# Altium schematic symbol library Nimb_Ring_2_0.SchLib: 30 symbols
Pins are listed as number, name and electrical type; pins without a type are passive.

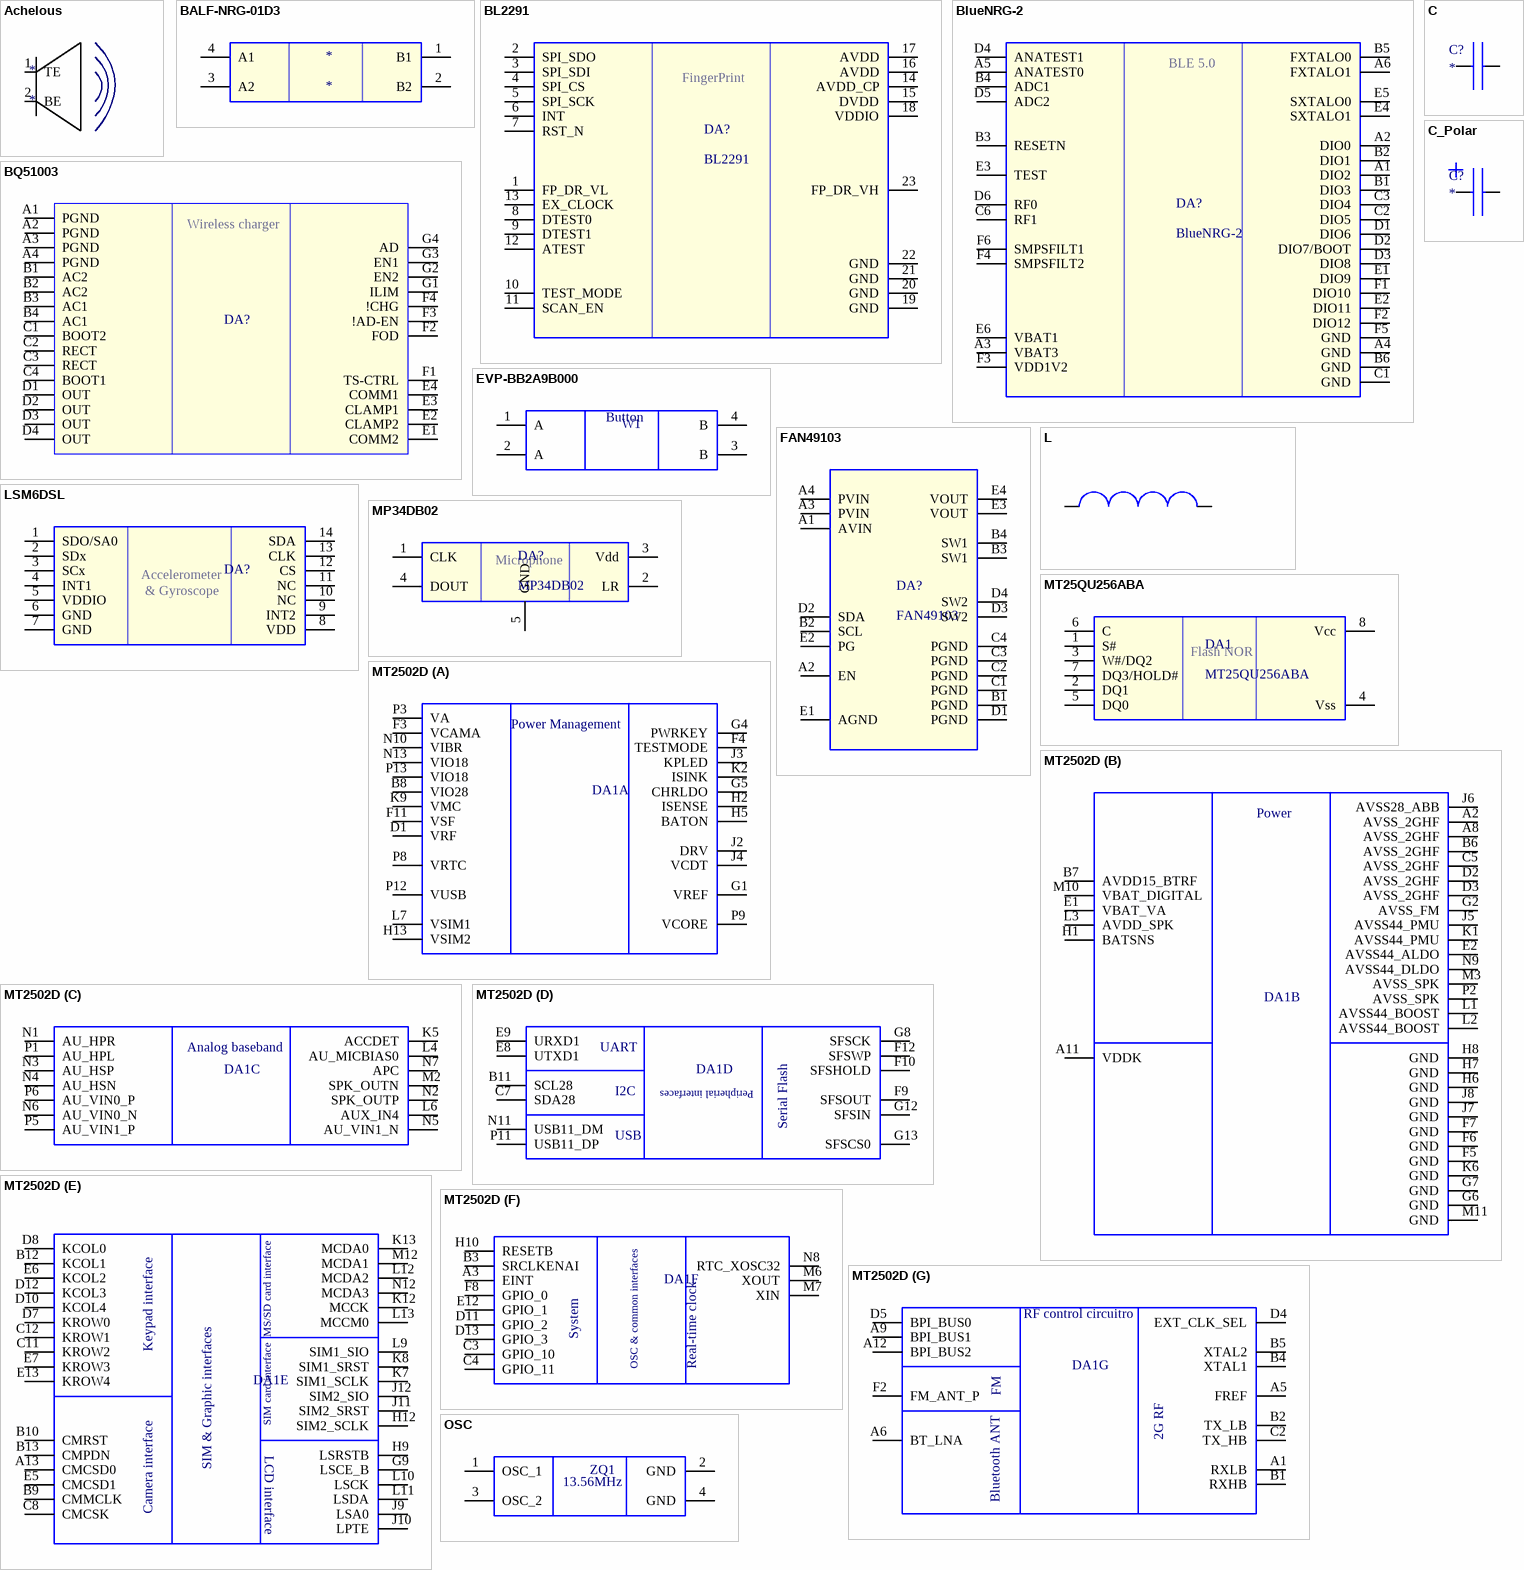
[diagram p0: symbols Achelous to OSC]

## Achelous
designator *
footprint SMD_SPEAKER_2pins (Achelous speaker)
pins: 1 TE, 2 BE

## BALF-NRG-01D3
designator *
pins: 1 B1, 2 B2, 3 A2, 4 A1

## BL2291
designator DA?
FingerPrint
footprint BL2291 (9.65mm x 9.65mm fingerprint)
pins: 1 FP_DR_VL, 2 SPI_SDO, 3 SPI_SDI, 4 SPI_CS, 5 SPI_SCK, 6 INT, 7 RST_N, 8 DTEST0, 9 DTEST1, 10 TEST_MODE, 11 SCAN_EN, 12 ATEST, 13 EX_CLOCK, 14 AVDD_CP, 15 DVDD, 16 AVDD, 17 AVDD, 18 VDDIO, 19 GND, 20 GND, 21 GND, 22 GND, 23 FP_DR_VH

## BlueNRG-2
designator DA?
footprint STM-WLCSP-34 (BGA, 34-Leads, Body 2.64x2.54mm, Pitch 0.4mm)
pins: A1 DIO2, A2 DIO0, A3 VBAT3, A4 GND, A5 ANATEST0, A6 FXTALO1, B1 DIO3, B2 DIO1, B3 RESETN, B4 ADC1, B5 FXTALO0, B6 GND, C1 GND, C2 DIO5, C3 DIO4, C6 RF1, D1 DIO6, D2 DIO7/BOOT, D3 DIO8, D4 ANATEST1, D5 ADC2, D6 RF0, E1 DIO9, E2 DIO11, E3 TEST, E4 SXTALO1, E5 SXTALO0, E6 VBAT1, F1 DIO10, F2 DIO12, F3 VDD1V2, F4 SMPSFILT2, F5 GND, F6 SMPSFILT1
text: BLE 5.0

## BQ51003
designator DA?  (value not drawn)
Wireless Receiver
footprint DSBGA28
pins: A1 PGND, A2 PGND, A3 PGND, A4 PGND, B1 AC2, B2 AC2, B3 AC1, B4 AC1, C1 BOOT2, C2 RECT, C3 RECT, C4 BOOT1, D1 OUT, D2 OUT, D3 OUT, D4 OUT, E1 COMM2, E2 CLAMP2, E3 CLAMP1, E4 COMM1, F1 TS-CTRL, F2 FOD, F3 !AD-EN, F4 !CHG, G1 ILIM, G2 EN2, G3 EN1, G4 AD
text: Wireless charger

## C
designator C?
DataSheet: *; PartNumber: *; Power/Voltage: *; Tolerance: *; TU/GOST: *; Type: *; Package: *; TKE/TKC: *; Примечание: *; Supplier: *; BCPid: *; ManufacturerPartNumber: *; Name: *; Rem: *; Value: *
pins: 1, 2

## C_Polar
designator C?
DataSheet: *; PartNumber: *; Power/Voltage: *; Tolerance: *; TU/GOST: *; Type: *; Package: *; TKE/TKC: *; Примечание: *; Supplier: *; BCPid: *; ManufacturerPartNumber: *; Name: *; Rem: *; Value: *
pins: 1, 2

## EVP-BB2A9B000
designator W1  (value not drawn)
Button
footprint EVP-BB2A9B000 (3mm x 1.6mm button)
pins: 1 A, 2 A, 3 B, 4 B

## FAN49103
designator DA?
footprint WLCSP20
pins: A1 AVIN, A2 EN, A3 PVIN, A4 PVIN, B1 PGND, B2 SCL, B3 SW1, B4 SW1, C1 PGND, C2 PGND, C3 PGND, C4 PGND, D1 PGND, D2 SDA, D3 SW2, D4 SW2, E1 AGND, E2 PG, E3 VOUT, E4 VOUT

## L
designator L?  (value not drawn)
DataSheet: *; PartNumber: *; Power/Voltage: *; Tolerance: *; TU/GOST: *; Type: *; Package: *; TKE/TKC: *; Примечание: *; Supplier: *; BCPid: *; ManufacturerPartNumber: *; Name: *; Rem: *; Value: *
pins: 1, 2

## LSM6DSL
designator DA?  (value not drawn)
Accelerometer+Gyroscope
footprint STM-LGA-14_2500X3000X860 (LGA, 14-Leads, Body 3x2.5mm, Pitch 0.5mm)
pins: 1 SDO/SA0, 2 SDx, 3 SCx, 4 INT1, 5 VDDIO, 6 GND, 7 GND, 8 VDD, 9 INT2, 10 NC, 11 NC, 12 CS, 13 CLK, 14 SDA
text: Accelerometer; & Gyroscope

## MP34DB02
designator DA?
Audio mems sensor
footprint MP34DB02 (4.1mm x 3.1mm Audio mems sensor)
pins: 1 CLK, 2 LR, 3 Vdd, 4 DOUT, 5 GND
text: Microphone

## MT25QU256ABA
designator DA1
FLASH Serial Interface NAND
footprint W-PDFN-8 (MLP8) (W-PDFN-8 (MLP8) – 6mm ? 5mm)
pins: 1 S#, 2 DQ1, 3 W#/DQ2, 4 Vss, 5 DQ0, 6 C, 7 DQ3/HOLD#, 8 Vcc
text: Flash NOR

## MT2502D
designator DA1  (value not drawn)
SOC ARM7EJ-STM 32-bit RISC processor
footprint TFBGA143 (5.4mm?6.2mm, 143-ball, 0.4mm pitch)
part A pins: B8 VIO28, D1 VRF, F3 VCAMA, F4 TESTMODE, F11 VSF, G1 VREF, G4 PWRKEY, G5 CHRLDO, H2 ISENSE, H5 BATON, H13 VSIM2, J2 DRV, J3 KPLED, J4 VCDT, K2 ISINK, K9 VMC, L7 VSIM1, N10 VIBR, N13 VIO18, P3 VA, P8 VRTC, P9 VCORE, P12 VUSB, P13 VIO18
part B pins: A2 AVSS_2GHF, A8 AVSS_2GHF, A11 VDDK, B6 AVSS_2GHF, B7 AVDD15_BTRF, C5 AVSS_2GHF, D2 AVSS_2GHF, D3 AVSS_2GHF, E1 VBAT_VA, E2 AVSS44_ALDO, F5 GND, F6 GND, F7 GND, G2 AVSS_FM, G6 GND, G7 GND, H1 BATSNS, H6 GND, H7 GND, H8 GND, J5 AVSS44_PMU, J6 AVSS28_ABB, J7 GND, J8 GND, K1 AVSS44_PMU, K6 GND, L1 AVSS44_BOOST, L2 AVSS44_BOOST, L3 AVDD_SPK, M3 AVSS_SPK, M10 VBAT_DIGITAL, M11 GND, N9 AVSS44_DLDO, P2 AVSS_SPK
part C pins: K5 ACCDET, L4 AU_MICBIAS0, L6 AUX_IN4, M2 SPK_OUTN, N1 AU_HPR, N2 SPK_OUTP, N3 AU_HSP, N4 AU_HSN, N5 AU_VIN1_N, N6 AU_VIN0_N, N7 APC, P1 AU_HPL, P5 AU_VIN1_P, P6 AU_VIN0_P
part D pins: B11 SCL28, C7 SDA28, E8 UTXD1, E9 URXD1, F9 SFSOUT, F10 SFSHOLD, F12 SFSWP, G8 SFSCK, G12 SFSIN, G13 SFSCS0, N11 USB11_DM, P11 USB11_DP
part E pins: A13 CMCSD0, B9 CMMCLK, B10 CMRST, B12 KCOL1, B13 CMPDN, C8 CMCSK, C11 KROW2, C12 KROW1, D7 KROW0, D8 KCOL0, D10 KCOL4, D12 KCOL3, E5 CMCSD1, E6 KCOL2, E7 KROW3, E13 KROW4, G9 LSCE_B, H9 LSRSTB, H12 SIM2_SCLK, J9 LSA0, J10 LPTE, J11 SIM2_SRST, J12 SIM2_SIO, K7 SIM1_SCLK, K8 SIM1_SRST, K12 MCCK, K13 MCDA0, L9 SIM1_SIO, L10 LSCK, L11 LSDA, L12 MCDA2, L13 MCCM0, M12 MCDA1, N12 MCDA3
part F pins: A3 EINT, B3 SRCLKENAI, C3 GPIO_10, C4 GPIO_11, D11 GPIO_2, D13 GPIO_3, E12 GPIO_1, F8 GPIO_0, H10 RESETB, M6 XOUT, M7 XIN, N8 RTC_XOSC32
part G pins: A1 RXLB, A5 FREF, A6 BT_LNA, A9 BPI_BUS1, A12 BPI_BUS2, B1 RXHB, B2 TX_LB, B4 XTAL1, B5 XTAL2, C2 TX_HB, D4 EXT_CLK_SEL, D5 BPI_BUS0, F2 FM_ANT_P
part A text: Power Management
part B text: Power
part C text: Analog baseband
part D text: UART; Peripherial interfaces; I2C; Serial Flash; USB
part E text: MS/SD card interface; Keypad interface; SIM card interface; LCD interface; SIM & Graphic interfaces; Camera interface
part F text: System; OSC & common interfaces; Real-time clock
part G text: RF control circuitro; FM; 2G RF; Bluetooth ANT

## OSC
designator ZQ1  (value not drawn)
XTAL 13.56MHz
footprint OSC_2016 (Quarz)
pins: 1 OSC_1, 2 GND, 3 OSC_2, 4 GND
text: 13.56MHz

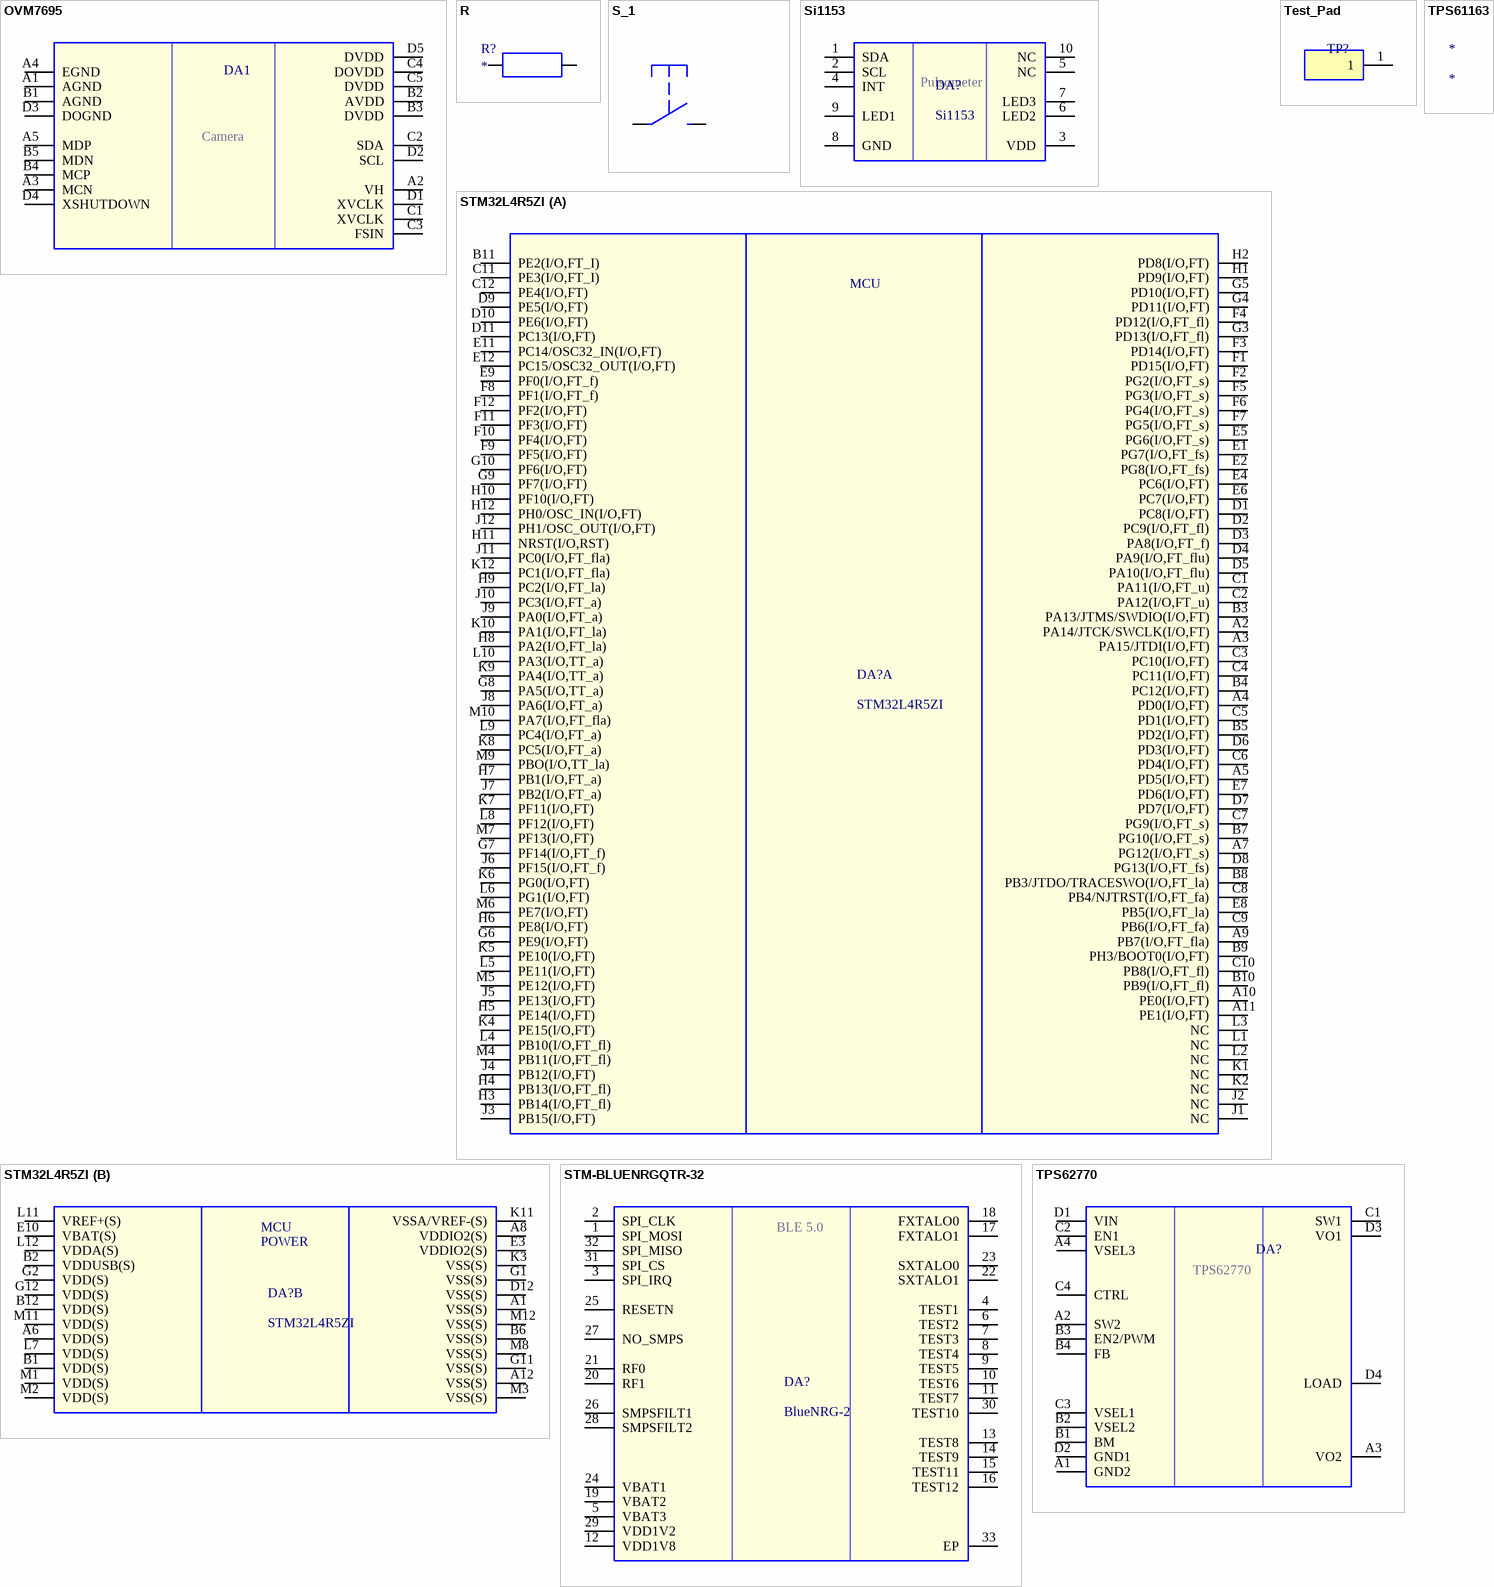
[diagram p1: symbols OVM7695 to TPS62770]

## OVM7695
designator DA1  (value not drawn)
640x480 camera module
footprint OVM7695_20 (OVM7695_camera(640x480))
pins: A1 AGND, A2 VH, A3 MCN, A4 EGND, A5 MDP, B1 AGND, B2 AVDD, B3 DVDD, B4 MCP, B5 MDN, C1 XVCLK, C2 SDA, C3 FSIN, C4 DOVDD, C5 DVDD, D1 XVCLK, D2 SCL, D3 DOGND, D4 XSHUTDOWN, D5 DVDD
text: Camera

## R
designator R?
DataSheet: *; PartNumber: *; Power/Voltage: *; Tolerance: *; TU/GOST: *; Type: *; Package: *; TKE/TKC: *; Примечание: *; Supplier: *; BCPid: *; ManufacturerPartNumber: *; Name: *; Rem: *; Value: *
pins: 1, 2

## S_1
designator S?
pins: 1, 2

## Si1153
designator DA?
Heart Rate Sensor
footprint DFN 2x2
pins: 1 SDA, 2 SCL, 3 VDD, 4 INT, 5 NC, 6 LED2, 7 LED3, 8 GND, 9 LED1, 10 NC
text: Pulsometer

## STM32L4R5ZI
designator DA?
footprint WLCSP144
part A pins: A2 PA14/JTCK/SWCLK(I/O,FT), A3 PA15/JTDI(I/O,FT), A4 PD0(I/O,FT), A5 PD5(I/O,FT), A7 PG12(I/O,FT_s), A9 PB7(I/O,FT_fla), A10 PE0(I/O,FT), A11 PE1(I/O,FT), B3 PA13/JTMS/SWDIO(I/O,FT), B4 PC12(I/O,FT), B5 PD2(I/O,FT), B7 PG10(I/O,FT_s), B8 PB3/JTDO/TRACESWO(I/O,FT_la), B9 PH3/BOOT0(I/O,FT), B10 PB9(I/O,FT_fl), B11 PE2(I/O,FT_I), C1 PA11(I/O,FT_u), C2 PA12(I/O,FT_u), C3 PC10(I/O,FT), C4 PC11(I/O,FT), C5 PD1(I/O,FT), C6 PD4(I/O,FT), C7 PG9(I/O,FT_s), C8 PB4/NJTRST(I/O,FT_fa), C9 PB6(I/O,FT_fa), C10 PB8(I/O,FT_fl), C11 PE3(I/O,FT_I), C12 PE4(I/O,FT), D1 PC8(I/O,FT), D2 PC9(I/O,FT_fl), D3 PA8(I/O,FT_f), D4 PA9(I/O,FT_flu), D5 PA10(I/O,FT_flu), D6 PD3(I/O,FT), D7 PD7(I/O,FT), D8 PG13(I/O,FT_fs), D9 PE5(I/O,FT), D10 PE6(I/O,FT), D11 PC13(I/O,FT), E1 PG7(I/O,FT_fs), E2 PG8(I/O,FT_fs), E4 PC6(I/O,FT), E5 PG6(I/O,FT_s), E6 PC7(I/O,FT), E7 PD6(I/O,FT), E8 PB5(I/O,FT_la), E9 PF0(I/O,FT_f), E11 PC14/OSC32_IN(I/O,FT), E12 PC15/OSC32_OUT(I/O,FT), F1 PD15(I/O,FT), F2 PG2(I/O,FT_s), F3 PD14(I/O,FT), F4 PD12(I/O,FT_fl), F5 PG3(I/O,FT_s), F6 PG4(I/O,FT_s), F7 PG5(I/O,FT_s), F8 PF1(I/O,FT_f), F9 PF5(I/O,FT), F10 PF4(I/O,FT), F11 PF3(I/O,FT), F12 PF2(I/O,FT), G3 PD13(I/O,FT_fl), G4 PD11(I/O,FT), G5 PD10(I/O,FT), G6 PE9(I/O,FT), G7 PF14(I/O,FT_f), G8 PA5(I/O,TT_a), G9 PF7(I/O,FT), G10 PF6(I/O,FT), H1 PD9(I/O,FT), H2 PD8(I/O,FT), H3 PB14(I/O,FT_fl), H4 PB13(I/O,FT_fl), H5 PE14(I/O,FT), H6 PE8(I/O,FT), H7 PB1(I/O,FT_a), H8 PA2(I/O,FT_la), H9 PC2(I/O,FT_la), H10 PF10(I/O,FT), H11 NRST(I/O,RST), H12 PH0/OSC_IN(I/O,FT), J1 NC, J2 NC, J3 PB15(I/O,FT), J4 PB12(I/O,FT), J5 PE13(I/O,FT), J6 PF15(I/O,FT_f), J7 PB2(I/O,FT_a), J8 PA6(I/O,FT_a), J9 PA0(I/O,FT_a), J10 PC3(I/O,FT_a), J11 PC0(I/O,FT_fla), J12 PH1/OSC_OUT(I/O,FT), K1 NC, K2 NC, K4 PE15(I/O,FT), K5 PE10(I/O,FT), K6 PG0(I/O,FT), K7 PF11(I/O,FT), K8 PC5(I/O,FT_a), K9 PA4(I/O,TT_a), K10 PA1(I/O,FT_la), K12 PC1(I/O,FT_fla), L1 NC, L2 NC, L3 NC, L4 PB10(I/O,FT_fl), L5 PE11(I/O,FT), L6 PG1(I/O,FT), L8 PF12(I/O,FT), L9 PC4(I/O,FT_a), L10 PA3(I/O,TT_a), M4 PB11(I/O,FT_fl), M5 PE12(I/O,FT), M6 PE7(I/O,FT), M7 PF13(I/O,FT), M9 PBO(I/O,TT_la), M10 PA7(I/O,FT_fla)
part B pins: A1 VSS(S), A6 VDD(S), A8 VDDIO2(S), A12 VSS(S), B1 VDD(S), B2 VDDUSB(S), B6 VSS(S), B12 VDD(S), D12 VSS(S), E3 VDDIO2(S), E10 VBAT(S), G1 VSS(S), G2 VDD(S), G11 VSS(S), G12 VDD(S), K3 VSS(S), K11 VSSA/VREF-(S), L7 VDD(S), L11 VREF+(S), L12 VDDA(S), M1 VDD(S), M2 VDD(S), M3 VSS(S), M8 VSS(S), M11 VDD(S), M12 VSS(S)
part A text: MCU
part B text: MCU; POWER

## STM-BLUENRGQTR-32
designator DA?, comment BlueNRG-2
footprint STM-QFN-32_N (QFN, 32-Leads, Body 5x5mm, Pitch 0.5mm, Thermal Pad 3.45x3.45mm, IPC Medium Density)
pins: 1 SPI_MOSI, 2 SPI_CLK, 3 SPI_IRQ, 4 TEST1, 5 VBAT3, 6 TEST2, 7 TEST3, 8 TEST4, 9 TEST5, 10 TEST6, 11 TEST7, 12 VDD1V8, 13 TEST8, 14 TEST9, 15 TEST11, 16 TEST12, 17 FXTALO1, 18 FXTALO0, 19 VBAT2, 20 RF1, 21 RF0, 22 SXTALO1, 23 SXTALO0, 24 VBAT1, 25 RESETN, 26 SMPSFILT1, 27 NO_SMPS, 28 SMPSFILT2, 29 VDD1V2, 30 TEST10, 31 SPI_CS, 32 SPI_MISO, 33 EP
text: BLE 5.0

## Test_Pad
designator TP?  (value not drawn)
pins: 1

## TPS61163
designator *
footprint DSBGA9x3
1 alternate drawing of the same symbol

## TPS62770
designator DA?  (value not drawn)
Multi-Rail DC/DC Converter
footprint DSBGA16 (1.58 x 1.58mm WCSP Package 0.4mm  pitch)
pins: A1 GND2, A2 SW2, A3 VO2, A4 VSEL3, B1 BM, B2 VSEL2, B3 EN2/PWM, B4 FB, C1 SW1, C2 EN1, C3 VSEL1, C4 CTRL, D1 VIN, D2 GND1, D3 VO1, D4 LOAD

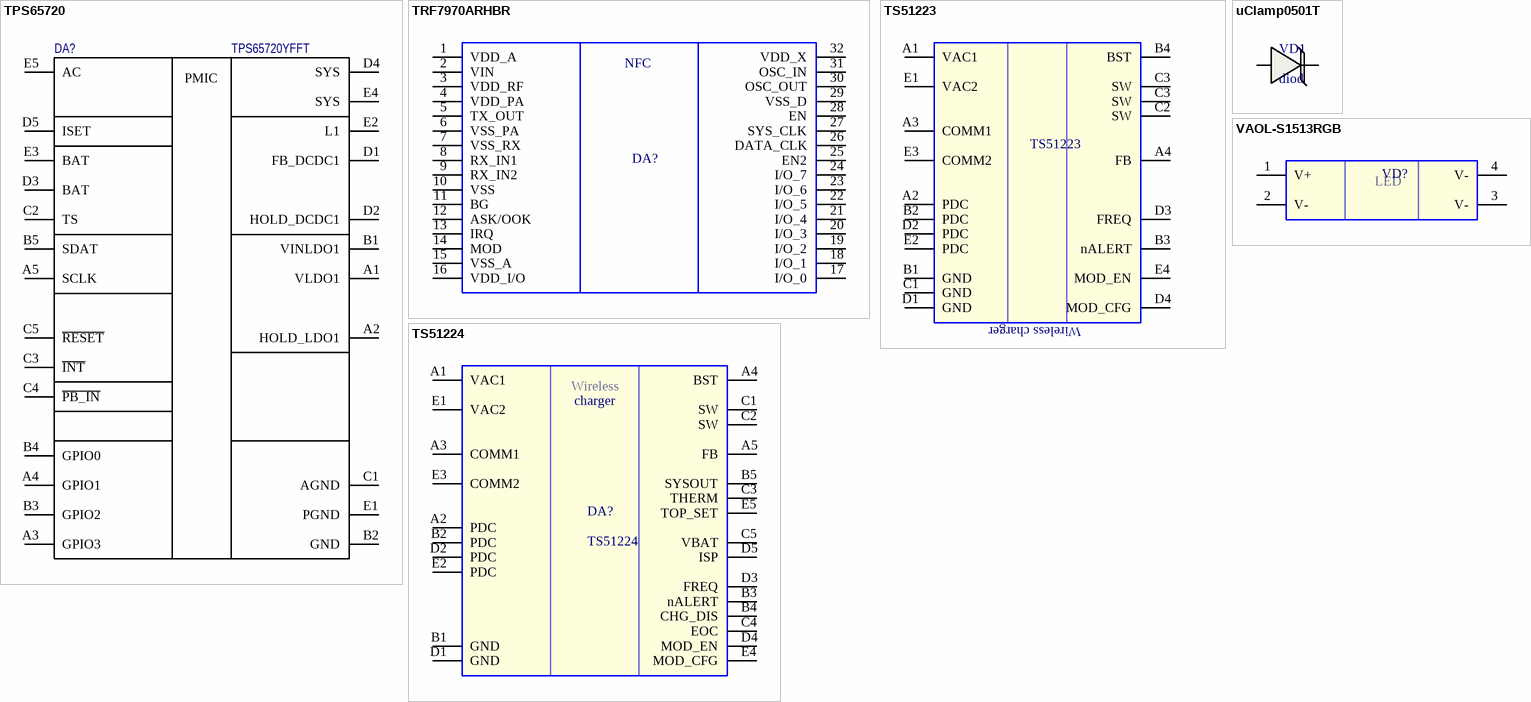
[diagram p2: symbols TPS65720 to VAOL-S1513RGB]

## TPS65720
designator DA?, comment TPS65720YFFT
IC PMU 2CH CONV/LDO 25DSBGA; ManufacturerName: Texas Instruments; Value: TPS65720YFFT; ManufacturerPartNumber: TPS65720YFFT
footprint YFF (S-XBGA-N25) (2.056 x 2.056 x 0.625)
pins: A1 VLDO1, A2 HOLD_LDO1, A3 GPIO3, A4 GPIO1, A5 SCLK, B1 VINLDO1, B2 GND, B3 GPIO2, B4 GPIO0, B5 SDAT, C1 AGND, C2 TS, C3 ~{INT}, C4 ~{PB_IN}, C5 ~{RESET}, D1 FB_DCDC1, D2 HOLD_DCDC1, D3 BAT, D4 SYS, D5 ISET, E1 PGND, E2 L1, E3 BAT, E4 SYS, E5 AC
text: PMIC

## TRF7970ARHBR
designator DA?  (value not drawn)
13.56-MHz RFID and NFC Transceiver
footprint QFN50P500X500-32WAN (QFN, 32-Leads, Body 5x5mm, Pitch 0.5mm, IPC Medium Density)
pins: 1 VDD_A, 2 VIN, 3 VDD_RF, 4 VDD_PA, 5 TX_OUT, 6 VSS_PA, 7 VSS_RX, 8 RX_IN1, 9 RX_IN2, 10 VSS, 11 BG, 12 ASK/OOK, 13 IRQ, 14 MOD, 15 VSS_A, 16 VDD_I/O, 17 I/O_0, 18 I/O_1, 19 I/O_2, 20 I/O_3, 21 I/O_4, 22 I/O_5, 23 I/O_6, 24 I/O_7, 25 EN2, 26 DATA_CLK, 27 SYS_CLK, 28 EN, 29 VSS_D, 30 OSC_OUT, 31 OSC_IN, 32 VDD_X
text: NFC

## TS51223
designator TS51223  (value not drawn)
IC RCVR CTLR WIRELESS 20-WLCSP
footprint BGA_20 (4x5 array)
pins: A1 VAC1, A2 PDC, A3 COMM1, A4 FB, B1 GND, B2 PDC, B3 nALERT, B4 BST, C1 GND, C2 SW, C3 SW, C3 SW, D1 GND, D2 PDC, D3 FREQ, D4 MOD_CFG, E1 VAC2, E2 PDC, E3 COMM2, E4 MOD_EN
text: Wireless charger

## TS51224
designator DA?
IC RCVR CTLR WIRELESS 20-WLCSP; Manufacturer: SEMTECH; Datasheet: https://ru.mouser.com/pdfdocs/ts51224_datasheet-1276106.pdf; Supplier: *
footprint BGA_25 (5x5 ARRAY) (BGA, 25-Leads, Body 2.2x2.4mm, Pitch 0.4mm)
pins: A1 VAC1, A2 PDC, A3 COMM1, A4 BST, A5 FB, B1 GND, B2 PDC, B3 nALERT, B4 CHG_DIS, B5 SYSOUT, C1 SW, C2 SW, C3 THERM, C4 EOC, C5 VBAT, D1 GND, D2 PDC, D3 FREQ, D4 MOD_EN, D5 ISP, E1 VAC2, E2 PDC, E3 COMM2, E4 MOD_CFG, E5 TOP_SET
text: Wireless; charger

## uClamp0501T
designator VD1, comment diod
footprint Diode_1006
pins: A 1, K 2

## VAOL-S1513RGB
designator VD?  (value not drawn)
LED Multi-color type
footprint VAOL-S1513RGB (3.2mm x 2.6mm)
pins: 1 V+, 2 V-, 3 V-, 4 V-
text: LED